# EAGLE library part TPS62932DRLR (library TPS62932)
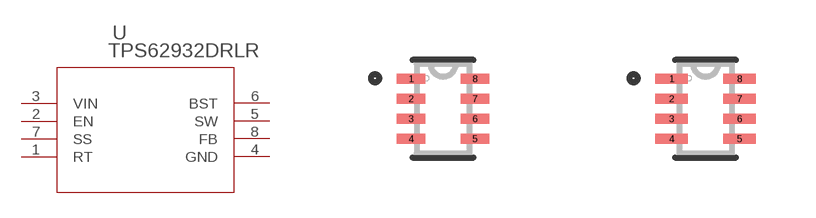
[diagram p0: symbol with the pads of SOT8_DRL_TEX; footprints SOT8_DRL_TEX, SOT8_DRL_TEX-M]

Designator prefix U

## TPS62932DRLR (COPYRIGHT: Copyright (C) 2023 Ultra Librarian. All rights reserved.; MANUFACTURER_PART_NUMBER: TPS62932DRLR; MFR_NAME: Texas Instruments)  [SOT8_DRL_TEX]
1  RT  pas
2  EN  pas
3  VIN  pwr
4  GND  pas
5  SW  pwr
6  BST  pwr
7  SS  pas
8  FB  pas

## TPS62932DRLRSOT8_DRL_TEX-M (COPYRIGHT: Copyright (C) 2023 Ultra Librarian. All rights reserved.; MANUFACTURER_PART_NUMBER: TPS62932DRLR; MFR_NAME: Texas Instruments)  [SOT8_DRL_TEX-M]
Pads as for SOT8_DRL_TEX

## TPS62932DRLRSOT8_DRL_TEX-L (COPYRIGHT: Copyright (C) 2023 Ultra Librarian. All rights reserved.; MANUFACTURER_PART_NUMBER: TPS62932DRLR; MFR_NAME: Texas Instruments)  [SOT8_DRL_TEX-L]
Pads as for SOT8_DRL_TEX

## Footprint SOT8_DRL_TEX (pad centres in mm)
smd 0.711 x 0.254: 1 -0.8,0.75; 2 -0.8,0.25; 3 -0.8,-0.25; 4 -0.8,-0.75; 5 0.8,-0.75; 6 0.8,-0.25; 7 0.8,0.25; 8 0.8,0.75

## Footprint SOT8_DRL_TEX-M (pad centres in mm)
smd 0.813 x 0.254: 1 -0.851,0.75; 2 -0.851,0.25; 3 -0.851,-0.25; 4 -0.851,-0.75; 5 0.851,-0.75; 6 0.851,-0.25; 7 0.851,0.25; 8 0.851,0.75

## Footprint SOT8_DRL_TEX-L (pad centres in mm)
smd 0.61 x 0.254: 1 -0.749,0.75; 2 -0.749,0.25; 3 -0.749,-0.25; 4 -0.749,-0.75; 5 0.749,-0.75; 6 0.749,-0.25; 7 0.749,0.25; 8 0.749,0.75